# Altium footprint library Fuse.PcbLib: 117 footprints (part 6 of 8)
Each footprint in its own frame and in the unit in brackets; x right, y up, seen from the top. Pads: shape width x height; smd on the part's side, far side on the other; paste and mask are expansions set on the pad; w line width, h text height; cw(c..) or ccw(c..) is an arc to the next point about the centre after c.
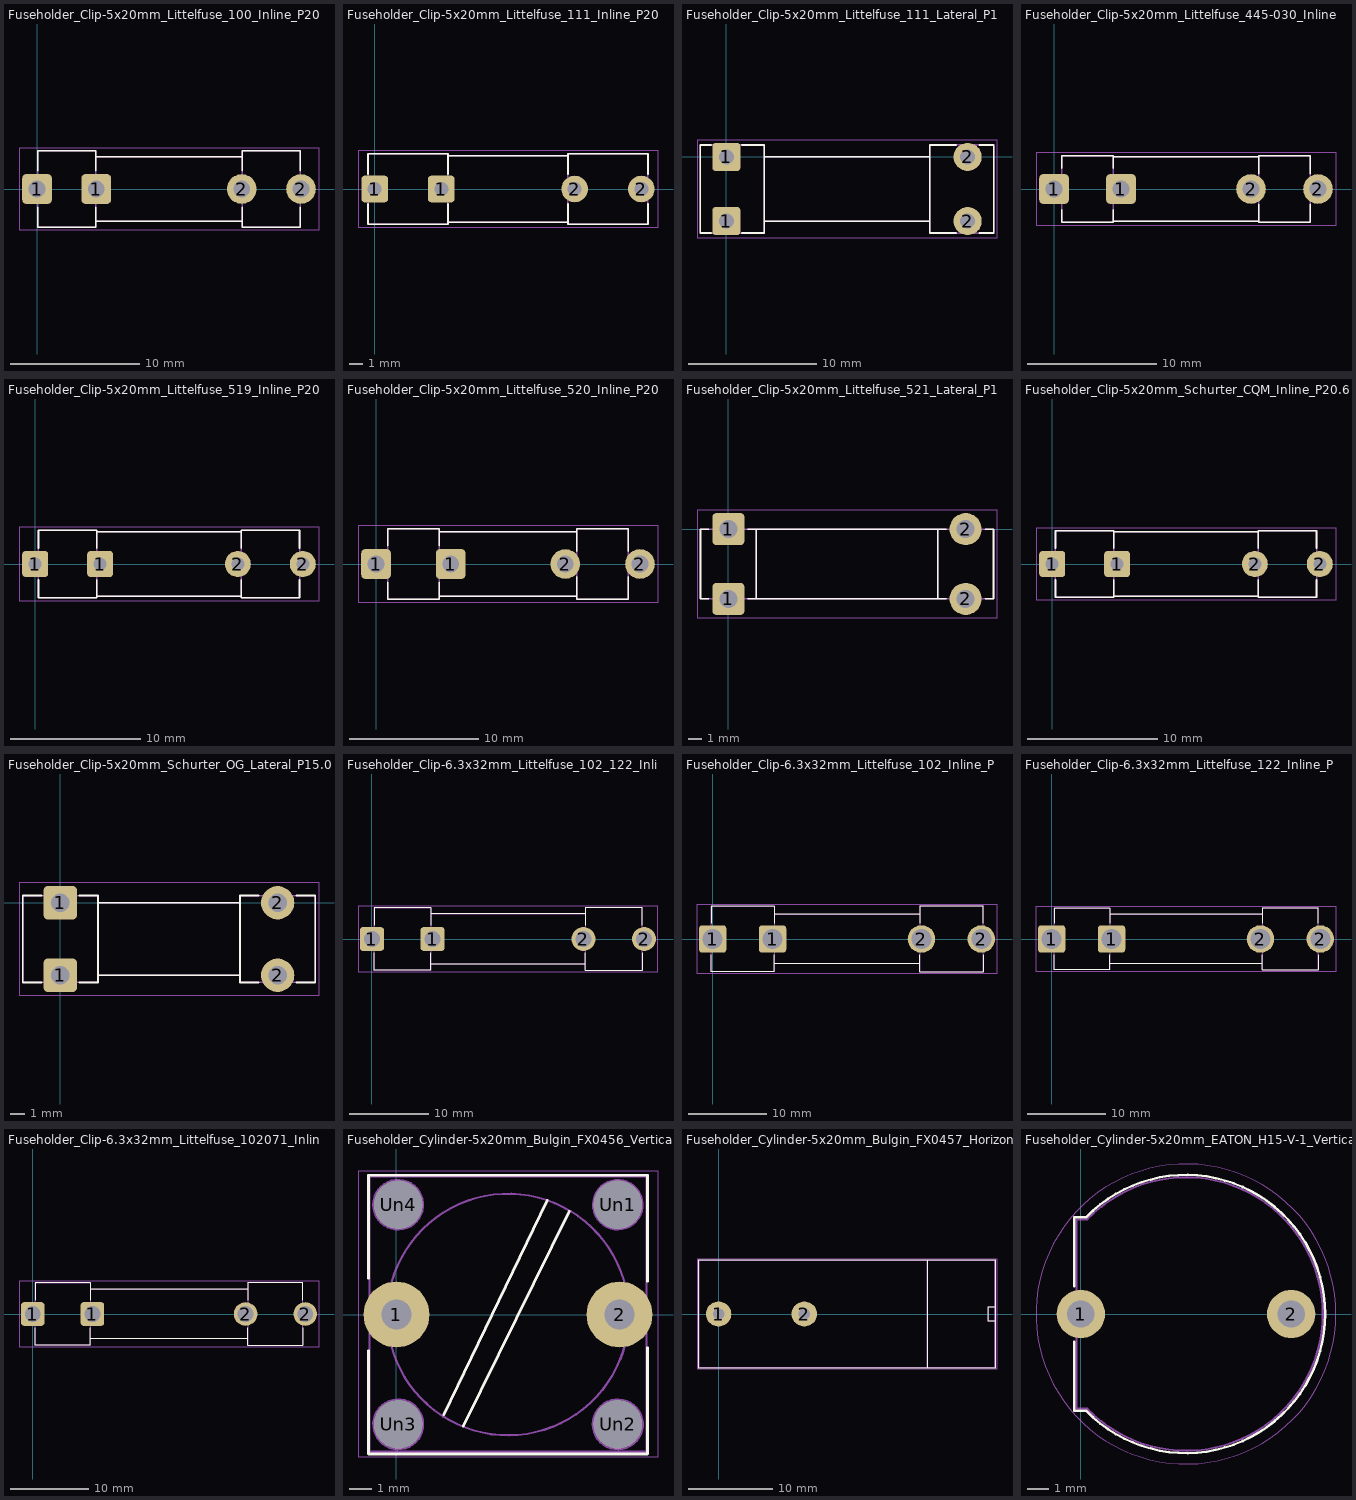
[diagram p5: the footprints below, top view; thin cyan lines are the x and y axes]

## Fuseholder_Clip-5x20mm_Littelfuse_100_Inline_P20.50x4.60mm_D1.30mm_Horizontal [mm]
pads (4):
  rrect25% 2.3x2.3 hole 1.3: 1(0,0) 1(4.6,0)
  round 2.3 hole 1.3: 2(15.9,0) 2(20.5,0)
F.SilkS:
  lines w0.12: 0.05,-1.4 0.05,-2.97 4.55,-2.97 4.55,-1.4 ; 0.05,1.4 0.05,2.97 4.55,2.97 4.55,1.4 ; 4.55,-2.5 15.95,-2.5 ; 4.55,2.5 15.95,2.5 ; 15.95,-1.4 15.95,-2.97 20.45,-2.97 20.45,-1.4 ; 15.95,1.4 15.95,2.97 20.45,2.97 20.45,1.4
F.CrtYd:
  lines w0.05: -1.4,-3.22 21.9,-3.22 21.9,3.22 -1.4,3.22 -1.4,-3.22
F.Fab:
  lines w0.1: 4.55,-2.5 15.95,-2.5 ; 4.55,2.5 15.95,2.5 ; 0.05,-2.97 0.05,2.97 4.55,2.97 4.55,-2.97 0.05,-2.97 ; 15.95,-2.97 15.95,2.97 20.45,2.97 20.45,-2.97 15.95,-2.97
  text "'.Designator'" at 6.203,-0.84 h1

## Fuseholder_Clip-5x20mm_Littelfuse_111_Inline_P20.00x5.00mm_D1.05mm_Horizontal [mm]
pads (4):
  rrect25% 2x2 hole 1.05: 1(0,0) 1(5,0)
  round 2 hole 1.05: 2(15,0) 2(20,0)
F.SilkS:
  lines w0.12: -0.5,-1.1 -0.5,-2.65 5.5,-2.65 5.5,-1.1 ; -0.5,1.1 -0.5,2.65 5.5,2.65 5.5,1.1 ; 5.5,-2.5 14.5,-2.5 ; 5.5,2.5 14.5,2.5 ; 14.5,-1.1 14.5,-2.65 20.5,-2.65 20.5,-1.1 ; 14.5,1.1 14.5,2.65 20.5,2.65 20.5,1.1
F.CrtYd:
  lines w0.05: -1.25,-2.9 21.25,-2.9 21.25,2.9 -1.25,2.9 -1.25,-2.9
F.Fab:
  lines w0.1: 5.5,-2.5 14.5,-2.5 ; 5.5,2.5 14.5,2.5 ; -0.5,-2.65 -0.5,2.65 5.5,2.65 5.5,-2.65 -0.5,-2.65 ; 14.5,-2.65 14.5,2.65 20.5,2.65 20.5,-2.65 14.5,-2.65
  text "'.Designator'" at 5.953,-0.84 h1

## Fuseholder_Clip-5x20mm_Littelfuse_111_Lateral_P18.80x5.00mm_D1.17mm_Horizontal [mm]
pads (4):
  rrect25% 2.2x2.2 hole 1.17: 1(0,-5) 1(0,0)
  round 2.2 hole 1.17: 2(18.8,-5) 2(18.8,0)
F.SilkS:
  lines w0.12: -1.2,-5.93 -2.04,-5.93 -2.04,0.93 -1.2,0.93 ; 1.2,-5.93 2.96,-5.93 2.96,0.93 1.2,0.93 ; 2.96,-5 15.84,-5 ; 2.96,0 15.84,0 ; 17.9,-5.93 15.84,-5.93 15.84,0.93 17.9,0.93 ; 19.7,-5.93 20.84,-5.93 20.84,0.93 19.7,0.93
F.CrtYd:
  lines w0.05: -2.29,-6.35 -2.29,1.35 21.09,1.35 21.09,-6.35 -2.29,-6.35
F.Fab:
  lines w0.1: 2.96,-5 15.84,-5 ; 2.96,0 15.84,0 ; -2.04,-5.93 2.96,-5.93 2.96,0.93 -2.04,0.93 -2.04,-5.93 ; 15.84,-5.93 20.84,-5.93 20.84,0.93 15.84,0.93 15.84,-5.93
  text "'.Designator'" at 5.353,-3.34 h1

## Fuseholder_Clip-5x20mm_Littelfuse_445-030_Inline_P20.50x5.20mm_D1.30mm_Horizontal [mm]
pads (4):
  rrect25% 2.3x2.3 hole 1.3: 1(0,0) 1(5.2,0)
  round 2.3 hole 1.3: 2(15.3,0) 2(20.5,0)
F.SilkS:
  lines w0.12: 0.6,-1.6 0.6,-2.6 4.6,-2.6 4.6,-1.6 ; 0.6,1.6 0.6,2.6 4.6,2.6 4.6,1.6 ; 4.6,-2.5 15.9,-2.5 ; 4.6,2.5 15.9,2.5 ; 15.9,-1.2 15.9,-2.6 19.9,-2.6 19.9,-1.2 ; 15.9,1.2 15.9,2.6 19.9,2.6 19.9,1.2
F.CrtYd:
  lines w0.05: -1.4,-2.85 21.9,-2.85 21.9,2.85 -1.4,2.85 -1.4,-2.85
F.Fab:
  lines w0.1: 4.6,-2.5 15.9,-2.5 ; 4.6,2.5 15.9,2.5 ; 0.6,-2.6 4.6,-2.6 4.6,2.6 0.6,2.6 0.6,-2.6 ; 15.9,-2.6 19.9,-2.6 19.9,2.6 15.9,2.6 15.9,-2.6
  text "'.Designator'" at 6.203,-0.84 h1

## Fuseholder_Clip-5x20mm_Littelfuse_519_Inline_P20.60x5.00mm_D1.00mm_Horizontal [mm]
pads (4):
  rrect25% 2x2 hole 1: 1(0,0) 1(5,0)
  round 2 hole 1: 2(15.6,0) 2(20.6,0)
F.SilkS:
  lines w0.12: 0.25,-1.2 0.25,-2.6 4.75,-2.6 4.75,-1.2 ; 0.25,1.2 0.25,2.6 4.75,2.6 4.75,1.2 ; 4.75,-2.5 15.85,-2.5 ; 4.75,2.5 15.85,2.5 ; 15.85,-1.2 15.85,-2.6 20.35,-2.6 20.35,-1.2 ; 15.85,1.2 15.85,2.6 20.35,2.6 20.35,1.2
F.CrtYd:
  lines w0.05: -1.25,-2.85 -1.25,2.85 21.85,2.85 21.85,-2.85 -1.25,-2.85
F.Fab:
  lines w0.1: 4.75,-2.5 15.85,-2.5 ; 4.75,2.5 15.85,2.5 ; 0.25,-2.6 0.25,2.6 4.75,2.6 4.75,-2.6 0.25,-2.6 ; 15.85,-2.6 15.85,2.6 20.35,2.6 20.35,-2.6 15.85,-2.6
  text "'.Designator'" at 6.253,-0.84 h1

## Fuseholder_Clip-5x20mm_Littelfuse_520_Inline_P20.50x5.80mm_D1.30mm_Horizontal [mm]
pads (4):
  rrect25% 2.3x2.3 hole 1.3: 1(0,0) 1(5.8,0)
  round 2.3 hole 1.3: 2(14.7,0) 2(20.5,0)
F.SilkS:
  lines w0.12: 0.9,-1.4 0.9,-2.75 4.9,-2.75 4.9,-1.4 ; 0.9,1.4 0.9,2.75 4.9,2.75 4.9,1.4 ; 4.9,-2.5 15.6,-2.5 ; 4.9,2.5 15.6,2.5 ; 15.6,-1 15.6,-2.75 19.6,-2.75 19.6,-1 ; 15.6,1 15.6,2.75 19.6,2.75 19.6,1
F.CrtYd:
  lines w0.05: -1.4,-3 21.9,-3 21.9,3 -1.4,3 -1.4,-3
F.Fab:
  lines w0.1: 4.9,-2.5 15.6,-2.5 ; 4.9,2.5 15.6,2.5 ; 0.9,-2.75 4.9,-2.75 4.9,2.75 0.9,2.75 0.9,-2.75 ; 15.6,-2.75 19.6,-2.75 19.6,2.75 15.6,2.75 15.6,-2.75
  text "'.Designator'" at 6.203,-0.84 h1

## Fuseholder_Clip-5x20mm_Littelfuse_521_Lateral_P17.00x5.00mm_D1.30mm_Horizontal [mm]
pads (4):
  rrect25% 2.3x2.3 hole 1.3: 1(0,-5) 1(0,0)
  round 2.3 hole 1.3: 2(17,-5) 2(17,0)
F.SilkS:
  lines w0.12: -1.4,-5 -2,-5 -2,0 -1.4,0 ; 1.4,-5 15.6,-5 ; 1.4,0 15.6,0 ; 2,-5 2,0 ; 15,-5 15,0 ; 18.4,-5 19,-5 19,0 18.4,0
F.CrtYd:
  lines w0.05: -2.25,-6.4 19.25,-6.4 19.25,1.4 -2.25,1.4 -2.25,-6.4
F.Fab:
  lines w0.1: 2,-5 2,0 ; 15,-5 15,0 ; -2,-5 -2,0 19,0 19,-5 -2,-5
  text "'.Designator'" at 4.453,-3.34 h1

## Fuseholder_Clip-5x20mm_Schurter_CQM_Inline_P20.60x5.00mm_D1.00mm_Horizontal [mm]
pads (4):
  rrect25% 2x2 hole 1: 1(0,0) 1(5,0)
  round 2 hole 1: 2(15.6,0) 2(20.6,0)
F.SilkS:
  lines w0.12: 0.25,-1.2 0.25,-2.55 4.75,-2.55 4.75,-1.2 ; 0.25,1.2 0.25,2.55 4.75,2.55 4.75,1.2 ; 4.75,-2.5 15.85,-2.5 ; 4.75,2.5 15.85,2.5 ; 15.85,-1.2 15.85,-2.55 20.35,-2.55 20.35,-1.2 ; 15.85,1.2 15.85,2.55 20.35,2.55 20.35,1.2
F.CrtYd:
  lines w0.05: -1.25,-2.8 21.85,-2.8 21.85,2.8 -1.25,2.8 -1.25,-2.8
F.Fab:
  lines w0.1: 4.75,-2.5 15.85,-2.5 ; 4.75,2.5 15.85,2.5 ; 0.25,-2.55 4.75,-2.55 4.75,2.55 0.25,2.55 0.25,-2.55 ; 15.85,-2.55 15.85,2.55 20.35,2.55 20.35,-2.55 15.85,-2.55
  text "'.Designator'" at 6.253,-0.84 h1

## Fuseholder_Clip-5x20mm_Schurter_OG_Lateral_P15.00x5.00mm_D1.3mm_Horizontal [mm]
pads (4):
  rrect25% 2.3x2.3 hole 1.3: 1(0,-5) 1(0,0)
  round 2.3 hole 1.3: 2(15,-5) 2(15,0)
F.SilkS:
  lines w0.12: -1.3,-5.5 -2.6,-5.5 -2.6,0.5 -1.3,0.5 ; 1.3,-5.5 2.6,-5.5 2.6,0.5 1.3,0.5 ; 2.6,-5 12.4,-5 ; 2.6,0 12.4,0 ; 13.7,-5.5 12.4,-5.5 12.4,0.5 13.7,0.5 ; 16.3,-5.5 17.6,-5.5 17.6,0.5 16.3,0.5
F.CrtYd:
  lines w0.05: -2.85,-6.4 -2.85,1.4 17.85,1.4 17.85,-6.4 -2.85,-6.4
F.Fab:
  lines w0.1: 2.6,-5 12.4,-5 ; 2.6,0 12.4,0 ; -2.6,-5.5 2.6,-5.5 2.6,0.5 -2.6,0.5 -2.6,-5.5 ; 12.4,-5.5 12.4,0.5 17.6,0.5 17.6,-5.5 12.4,-5.5
  text "'.Designator'" at 3.453,-3.34 h1

## Fuseholder_Clip-6.3x32mm_Littelfuse_102_122_Inline_P34.21x7.62mm_D1.98mm_Horizontal [mm]
pads (4):
  rrect25% 3x3 hole 1.98: 1(0,0) 1(7.62,0)
  round 3 hole 1.98: 2(26.59,0) 2(34.21,0)
F.SilkS:
  lines w0.12: 0.3,-1.75 0.3,-3.935 7.365,-3.935 7.365,-1.75 ; 0.3,1.75 0.3,3.935 7.365,3.935 7.365,1.75 ; 7.365,-3.175 26.845,-3.175 ; 7.365,3.175 26.845,3.175 ; 26.845,-1.75 26.845,-3.935 33.955,-3.935 33.955,-1.75 ; 26.845,1.75 26.845,3.935 33.955,3.935 33.955,1.75
F.CrtYd:
  lines w0.05: -1.75,-4.19 35.96,-4.19 35.96,4.19 -1.75,4.19 -1.75,-4.19
F.Fab:
  lines w0.1: 7.365,-3.175 26.845,-3.175 ; 7.365,3.175 26.845,3.175 ; 0.3,-3.935 7.365,-3.935 7.365,3.935 0.3,3.935 0.3,-3.935 ; 26.845,-3.935 33.955,-3.935 33.955,3.935 26.845,3.935 26.845,-3.935
  text "'.Designator'" at 13.053,-0.84 h1

## Fuseholder_Clip-6.3x32mm_Littelfuse_102_Inline_P34.21x7.62mm_D2.54mm_Horizontal [mm]
pads (4):
  rrect25% 3.5x3.5 hole 2.54: 1(0,0) 1(7.62,0)
  round 3.5 hole 2.54: 2(26.59,0) 2(34.21,0)
F.SilkS:
  lines w0.12: -0.185,-2 -0.185,-4.19 7.85,-4.19 7.85,-2 ; -0.185,2 -0.185,4.19 7.85,4.19 7.85,2 ; 7.85,-3.175 26.36,-3.175 ; 7.85,3.175 26.36,3.175 ; 26.36,-2 26.36,-4.19 34.44,-4.19 34.44,-2 ; 26.36,2 26.36,4.19 34.44,4.19 34.44,2
F.CrtYd:
  lines w0.05: -2,-4.44 36.21,-4.44 36.21,4.44 -2,4.44 -2,-4.44
F.Fab:
  lines w0.1: 7.85,-3.175 26.36,-3.175 ; 7.85,3.175 26.36,3.175 ; -0.185,-4.19 7.85,-4.19 7.85,4.19 -0.185,4.19 -0.185,-4.19 ; 26.36,-4.19 34.44,-4.19 34.44,4.19 26.36,4.19 26.36,-4.19
  text "'.Designator'" at 13.053,-0.84 h1

## Fuseholder_Clip-6.3x32mm_Littelfuse_122_Inline_P34.21x7.62mm_D2.54mm_Horizontal [mm]
pads (4):
  rrect25% 3.5x3.5 hole 2.54: 1(0,0) 1(7.62,0)
  round 3.5 hole 2.54: 2(26.59,0) 2(34.21,0)
F.SilkS:
  lines w0.12: 0.3,-2 0.3,-3.935 7.365,-3.935 7.365,-2 ; 0.3,2 0.3,3.935 7.365,3.935 7.365,2 ; 7.365,-3.175 26.845,-3.175 ; 7.365,3.175 26.845,3.175 ; 26.845,-2 26.845,-3.935 33.955,-3.935 33.955,-2 ; 26.845,2 26.845,3.935 33.955,3.935 33.955,2
F.CrtYd:
  lines w0.05: -2,-4.19 -2,4.19 36.21,4.19 36.21,-4.19 -2,-4.19
F.Fab:
  lines w0.1: 7.365,-3.175 26.845,-3.175 ; 7.365,3.175 26.845,3.175 ; 0.3,-3.935 7.365,-3.935 7.365,3.935 0.3,3.935 0.3,-3.935 ; 26.845,-3.935 26.845,3.935 33.955,3.935 33.955,-3.935 26.845,-3.935
  text "'.Designator'" at 13.053,-0.84 h1

## Fuseholder_Clip-6.3x32mm_Littelfuse_102071_Inline_P34.70x7.60mm_D2.00mm_Horizontal [mm]
pads (4):
  rrect25% 3x3 hole 2: 1(0,0) 1(7.6,0)
  round 3 hole 2: 2(27.1,0) 2(34.7,0)
F.SilkS:
  lines w0.12: 0.3,-1.765 0.3,-3.95 7.3,-3.95 7.3,-1.765 ; 0.3,1.765 0.3,3.95 7.3,3.95 7.3,1.765 ; 7.3,-3.175 27.4,-3.175 ; 7.3,3.175 27.4,3.175 ; 27.4,-1.765 27.4,-3.95 34.4,-3.95 34.4,-1.765 ; 27.4,1.765 27.4,3.95 34.4,3.95 34.4,1.765
F.CrtYd:
  lines w0.05: -1.75,-4.21 -1.75,4.21 36.45,4.21 36.45,-4.21 -1.75,-4.21
F.Fab:
  lines w0.1: 7.3,-3.175 27.4,-3.175 ; 7.3,3.175 27.4,3.175 ; 0.3,-3.95 7.3,-3.95 7.3,3.95 0.3,3.95 0.3,-3.95 ; 27.4,-3.95 27.4,3.95 34.4,3.95 34.4,-3.95 27.4,-3.95
  text "'.Designator'" at 13.053,-0.84 h1

## Fuseholder_Cylinder-5x20mm_Bulgin_FX0456_Vertical_Closed [mm]
pads (6):
  round 3 hole 1.35: 1(0,0) 2(10.16,0)
  round 2.2 hole 2.2: Un1(10.08,5) Un2(10.08,-5) Un3(0.08,-5) Un4(0.08,5)
F.SilkS:
  lines w0.12: -1.27,-1.65 -1.27,-6.35 11.43,-6.35 11.43,-1.52 ; -1.27,1.65 -1.27,6.35 11.43,6.35 11.43,1.52 11.43,1.65 ; 2.16,-4.57 6.86,5.21 ; 3.05,-5.08 7.87,4.7
F.CrtYd:
  lines w0.05: -1.75,-6.5 11.91,-6.5 11.91,6.55 -1.75,6.55 -1.75,-6.5
F.Fab:
  circle w0.1: c10.08,-5 r1.137
  circle w0.1: c5.08,0 r5.5
  circle w0.1: c10.08,5 r1.126
  circle w0.1: c0.08,5 r1.133
  circle w0.1: c0.08,-5 r1.136
  lines w0.1: 2.13,-4.65 6.88,5.2 ; 3.03,-5.1 7.88,4.7 ; -1.22,-6.25 11.38,-6.25 11.38,6.3 -1.22,6.3 -1.22,-6.25
  text "S" at 7.897,-3.32 h1
  text "'.Designator'" at 1.203,6.41 h1
  text "F" at 1.321,1.64 h1

## Fuseholder_Cylinder-5x20mm_Bulgin_FX0457_Horizontal_Closed [mm]
pads (2):
  round 3 hole 1.35: 1(0,0) 2(10.16,0)
F.SilkS:
  lines w0.12: 24.75,-6.4 24.75,6.4 ; 32.85,-0.8 31.95,-0.8 31.95,0.8 32.85,0.8 ; -2.44,-6.42 -2.44,6.42 32.9,6.42 32.9,-6.42 -2.44,-6.42
F.CrtYd:
  lines w0.05: -2.57,-6.55 -2.57,6.55 33.03,6.55 33.03,-6.55 -2.57,-6.55
F.Fab:
  lines w0.1: 24.78,-6.3 24.78,6.3 ; 32.78,-0.8 31.98,-0.8 31.98,0.8 32.78,0.8 ; -2.32,-6.3 -2.32,6.3 32.78,6.3 32.78,-6.3 -2.32,-6.3
  text "'.Designator'" at 9.203,-6.34 h1

## Fuseholder_Cylinder-5x20mm_EATON_H15-V-1_Vertical_Closed [mm]
pads (2):
  round 2.3 hole 1.3: 1(0,0) 2(10,0)
F.SilkS:
  lines w0.12: -0.31,-1.33 -0.31,-4.61 0.26,-4.61 ; -0.31,1.33 -0.31,4.61 0.26,4.61 ; 0.261,-4.608 ccw(c5,0) 11.61,0 ccw(c5,0) 0.261,4.608
F.CrtYd:
  circle w0.05: c5,0 r7.13
F.Fab:
  lines w0.1: 0.3,-4.5 -0.2,-4.5 -0.2,4.5 0.3,4.5 ; 0.309,-4.499 ccw(c5,0) 11.5,0 ccw(c5,0) 0.309,4.499
  text "'.Designator'" at 0.953,-0.84 h1